# EAGLE library part G65SC51P (library 65XXX)
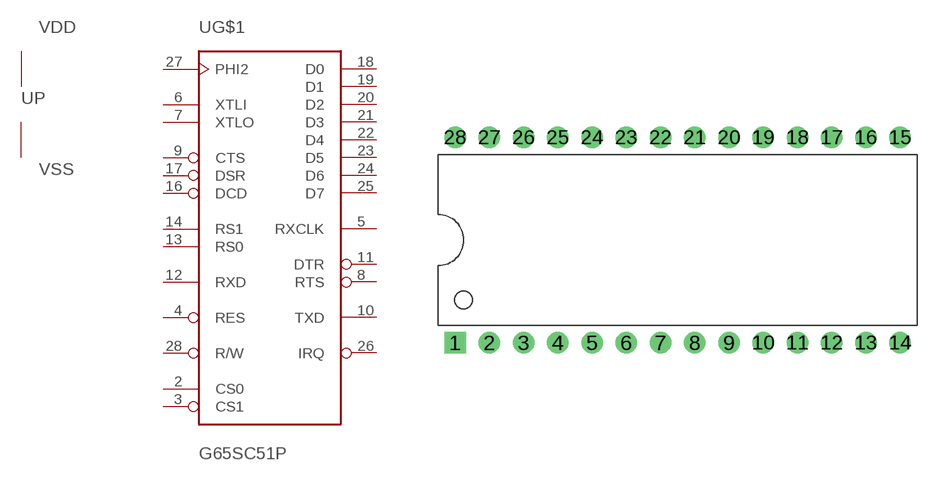
[diagram p3: symbol with the pads of DIP-28; footprint DIP-28]

Designator prefix U; gates G$1=65C51 P=P-CMOS

## G65SC51P  [DIP-28]
1  P:VSS  pwr
2  G$1:CS0  in
3  G$1:CS1  in
4  G$1:RES  in
5  G$1:RXCLK
6  G$1:XTLI  in
7  G$1:XTLO  out
8  G$1:RTS  out
9  G$1:CTS  in
10  G$1:TXD  out
11  G$1:DTR  out
12  G$1:RXD  in
13  G$1:RS0  in
14  G$1:RS1  in
15  P:VDD  pwr
16  G$1:DCD  in
17  G$1:DSR  in
18  G$1:D0
19  G$1:D1
20  G$1:D2
21  G$1:D3
22  G$1:D4
23  G$1:D5
24  G$1:D6
25  G$1:D7
26  G$1:IRQ  out
27  G$1:PHI2  pwr
28  G$1:R/W  in

## Footprint DIP-28 (pad centres in mm)
drill 0.889 pad 1.6 square: 1 -15.24,-7.62
drill 0.889 pad 1.6: 2 -12.7,-7.62; 3 -10.16,-7.62; 4 -7.62,-7.62; 5 -5.08,-7.62; 6 -2.54,-7.62; 7 0,-7.62; 8 2.54,-7.62; 9 5.08,-7.62; 10 7.62,-7.62; 11 10.16,-7.62; 12 12.7,-7.62; 13 15.24,-7.62; 14 17.78,-7.62; 15 17.78,7.62; 16 15.24,7.62; 17 12.7,7.62; 18 10.16,7.62; 19 7.62,7.62; 20 5.08,7.62; 21 2.54,7.62; 22 0,7.62; 23 -2.54,7.62; 24 -5.08,7.62; 25 -7.62,7.62; 26 -10.16,7.62; 27 -12.7,7.62; 28 -15.24,7.62